# EAGLE library part CONNECTOR_12PIN (library pixel_masterlib)
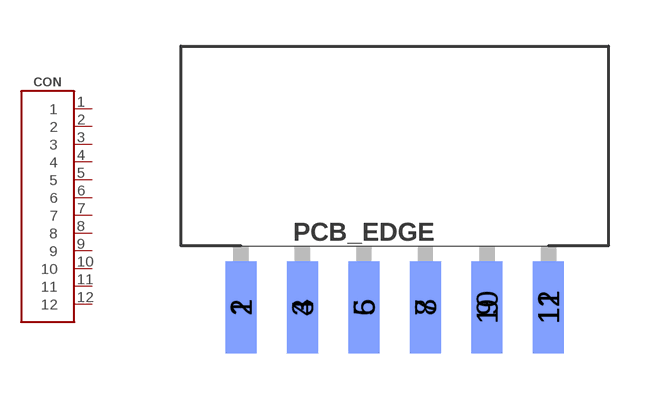
[diagram p10: symbol with the pads of 2MM_12PIN_2ROW_CON; footprint 2MM_12PIN_2ROW_CON]

Designator prefix CON

## CONNECTOR_12PIN  [2MM_12PIN_2ROW_CON]
1  1
2  2
3  3
4  4
5  5
6  6
7  7
8  8
9  9
10  10
11  11
12  12

## Footprint 2MM_12PIN_2ROW_CON (pad centres in mm)
smd 1 x 3: 1 -5,-0.25; 3 -3,-0.25; 5 -1,-0.25; 7 1,-0.25; 9 3,-0.25; 11 5,-0.25
smd 1 x 3 bottom: 2 -5,-0.25; 4 -3,-0.25; 6 -1,-0.25; 8 1,-0.25; 10 3,-0.25; 12 5,-0.25